# Altium footprint library QFN-68_8x8x04P.PcbLib: 1 footprints
Each footprint in its own frame and in the unit in brackets; x right, y up, seen from the top. Pads: shape width x height; smd on the part's side, far side on the other; paste and mask are expansions set on the pad; w line width, h text height; cw(c..) or ccw(c..) is an arc to the next point about the centre after c.
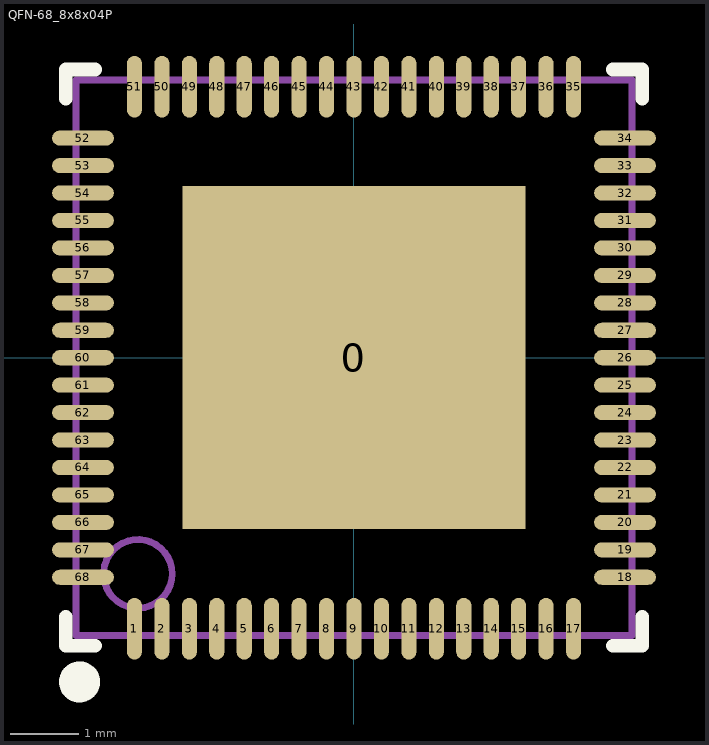
[diagram p0: the footprint, top view; thin cyan lines are the x and y axes]

## QFN-68_8x8x04P [mm]
pads (69):
  rect 5x5 smd: 0(0,0)
  oval 0.22x0.9 smd mask+0.051: 1(-3.2,-3.95) 2(-2.8,-3.95) 3(-2.4,-3.95) 4(-2,-3.95) 5(-1.6,-3.95) 6(-1.2,-3.95) 7(-0.8,-3.95) 8(-0.4,-3.95) 9(0,-3.95) 10(0.4,-3.95) 11(0.8,-3.95) 12(1.2,-3.95) 13(1.6,-3.95) 14(2,-3.95) 15(2.4,-3.95) 16(2.8,-3.95) 17(3.2,-3.95) 35(3.2,3.95) 36(2.8,3.95) 37(2.4,3.95) 38(2,3.95) 39(1.6,3.95) 40(1.2,3.95) 41(0.8,3.95) 42(0.4,3.95) 43(0,3.95) 44(-0.4,3.95) 45(-0.8,3.95) 46(-1.2,3.95) 47(-1.6,3.95) 48(-2,3.95) 49(-2.4,3.95) 50(-2.8,3.95) 51(-3.2,3.95)
  oval 0.9x0.22 smd mask+0.051: 18(3.95,-3.2) 19(3.95,-2.8) 20(3.95,-2.4) 21(3.95,-2) 22(3.95,-1.6) 23(3.95,-1.2) 24(3.95,-0.8) 25(3.95,-0.4) 26(3.95,0) 27(3.95,0.4) 28(3.95,0.8) 29(3.95,1.2) 30(3.95,1.6) 31(3.95,2) 32(3.95,2.4) 33(3.95,2.8) 34(3.95,3.2) 52(-3.95,3.2) 53(-3.95,2.8) 54(-3.95,2.4) 55(-3.95,2) 56(-3.95,1.6) 57(-3.95,1.2) 58(-3.95,0.8) 59(-3.95,0.4) 60(-3.95,0) 61(-3.95,-0.4) 62(-3.95,-0.8) 63(-3.95,-1.2) 64(-3.95,-1.6) 65(-3.95,-2) 66(-3.95,-2.4) 67(-3.95,-2.8) 68(-3.95,-3.2)
Top Overlay:
  circle w0.3: c-4,-4.725 r0.15
  lines w0.2: -4.2,-3.775 -4.2,-4.2 -3.775,-4.2 ; -4.2,3.775 -4.2,4.2 -3.775,4.2 ; 3.775,-4.2 4.2,-4.2 4.2,-3.775 ; 3.775,4.2 4.2,4.2 4.2,3.775
Mechanical 13:
  circle w0.1: c-3.15,-3.15 r0.5
  lines w0.1: -4.05,-4.05 4.05,-4.05 4.05,4.05 -4.05,4.05 -4.05,-4.05